# Altium footprint library Thermistors.PcbLib: 3 footprints
Each footprint in its own frame and in the unit in brackets; x right, y up, seen from the top. Pads: shape width x height; smd on the part's side, far side on the other; paste and mask are expansions set on the pad; w line width, h text height; cw(c..) or ccw(c..) is an arc to the next point about the centre after c.
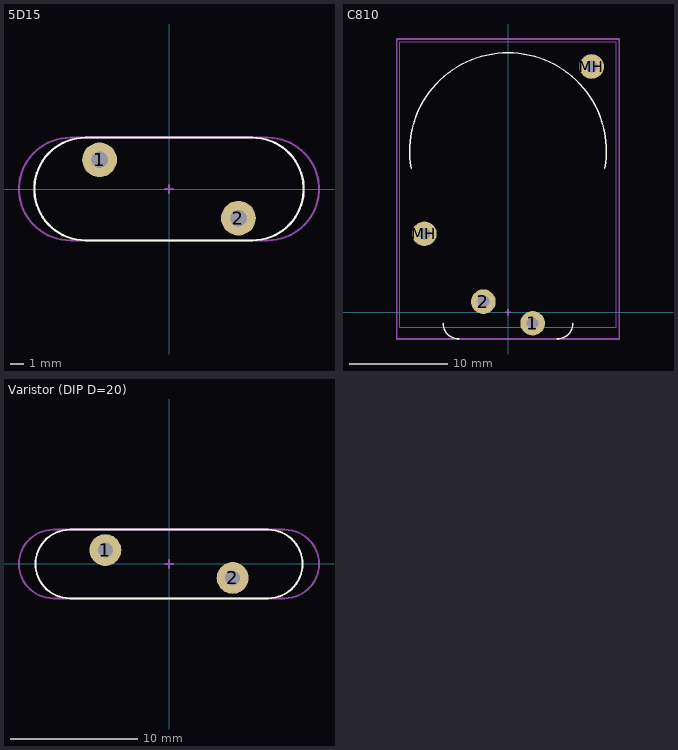
[diagram p0: the footprints below, top view; thin cyan lines are the x and y axes]

## 5D15 [mm]
pads (2):
  round 2.5 hole 1.2: 1(-5,2.1) 2(5,-2.1)
Top Overlay:
  lines w0.153: -6,-3.7 cw(c-6,0) -6,3.7 6,3.7 cw(c6,0) 6,-3.7 -6,-3.7
Top Assembly:
  lines w0.1: -6,-3.7 cw(c-6,0) -6,3.7 6,3.7 cw(c6,0) 6,-3.7 -6,-3.7
  text "'.Designator'" at -4.532,-0.333 h0.8
Top Courtyard:
  lines w0.153: -0.3,0 0.3,0 ; 0,-0.3 0,0.3 ; -7.1,-3.7 cw(c-7.1,0) -7.1,3.7 7.1,3.7 cw(c7.1,0) 7.1,-3.7 -7.1,-3.7
3D body "User Library-NTC MF72 XD-15.step": height 21.5, standoff -3, extent -8.75,-3 8.75,3

## C810 [mm]
pads (4):
  round 2.5 hole 1.2: 1(2.5,-1.1) 2(-2.5,1.1) MH(-8.5,8) MH(8.5,25)
Top Overlay:
  lines w0.153: -9.848,14.664 cw(c0,16.4) 9.848,14.664 ; -6.6,-1.1 ccw(c-5,-1.1) -5,-2.7 ; 5,-2.7 ccw(c5,-1.1) 6.6,-1.1
Top Assembly:
  lines w0.1: -11,-1.5 -11,27.5 11,27.5 11,-1.5 -11,-1.5
  text "'.Designator'" at -4.532,-0.333 h0.8
Top Courtyard:
  lines w0.153: -0.3,0 0.3,0 ; 0,-0.3 0,0.3 ; -11.3,-2.7 11.3,-2.7 11.3,27.8 -11.3,27.8 -11.3,-2.7
3D body "Untitled.step": height 5.5, standoff -3.2, extent -11,-1.5 11,27.45

## Varistor (DIP D=20) [mm]
pads (2):
  round 2.5 hole 1.2: 1(-5,1.1) 2(5,-1.1)
Top Overlay:
  lines w0.153: -7.8,-2.7 cw(c-7.8,0) -7.8,2.7 7.8,2.7 cw(c7.8,0) 7.8,-2.7 -7.8,-2.7
Top Assembly:
  lines w0.1: -7.8,-2.7 cw(c-7.8,0) -7.8,2.7 7.8,2.7 cw(c7.8,0) 7.8,-2.7 -7.8,-2.7
  text "'.Designator'" at -4.532,-0.333 h0.8
Top Courtyard:
  lines w0.153: -0.3,0 0.3,0 ; 0,-0.3 0,0.3 ; -9.1,-2.7 cw(c-9.1,0) -9.1,2.7 9.1,2.7 cw(c9.1,0) 9.1,-2.7 -9.1,-2.7
3D body "s20k275e2.step": height 25.5, standoff -24, extent -10.5,-1.9 10.5,1.9